# Altium footprint library LD09P24A4GV00LF.PcbLib: 1 footprints
Each footprint in its own frame and in the unit in brackets; x right, y up, seen from the top. Pads: shape width x height; smd on the part's side, far side on the other; paste and mask are expansions set on the pad; w line width, h text height; cw(c..) or ccw(c..) is an arc to the next point about the centre after c.
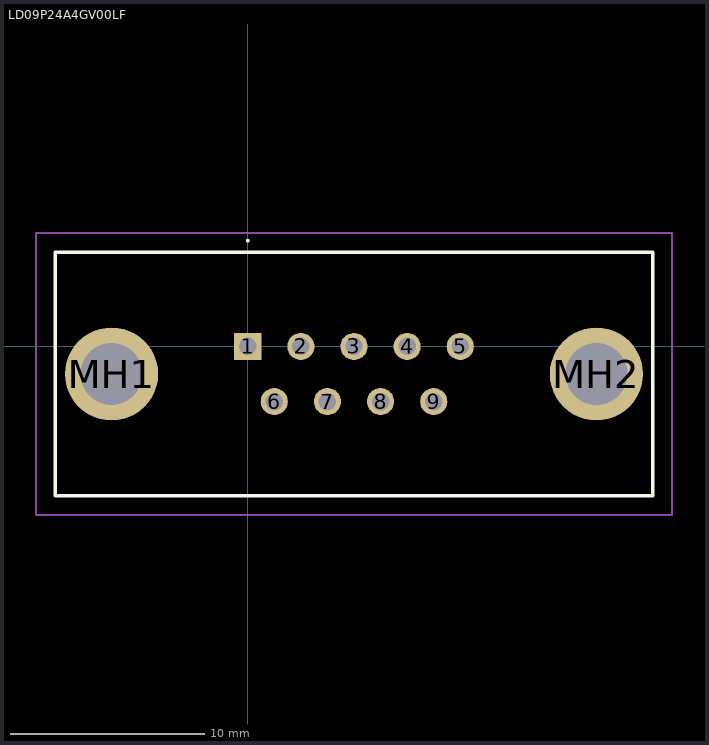
[diagram p0: the footprint, top view; thin cyan lines are the x and y axes]

## LD09P24A4GV00LF [mm]
pads (11):
  rect 1.4x1.4 hole 0.9: 1(0,0)
  round 1.4 hole 0.9: 2(2.74,0) 3(5.48,0) 4(8.22,0) 5(10.96,0) 6(1.37,-2.84) 7(4.11,-2.84) 8(6.85,-2.84) 9(9.59,-2.84)
  round 4.8 hole 3.2: MH1(-7.015,-1.42) MH2(17.975,-1.42)
Top Overlay:
  lines w0.1: 0,5.4 0,5.4 ; 0,5.4 ccw(c0,5.45) 0,5.5 ; 0,5.4 cw(c0,5.45) 0,5.5 ; 0,5.5 0,5.5
  lines w0.2: -9.925,-7.695 20.885,-7.695 20.885,4.855 -9.925,4.855 -9.925,-7.695
Mechanical 15:
  lines w0.1: -9.925,-7.695 20.885,-7.695 20.885,4.855 -9.925,4.855 -9.925,-7.695
Mechanical 20:
  lines w0.1: -10.925,-8.695 21.885,-8.695 21.885,5.855 -10.925,5.855 -10.925,-8.695
3D body "LD09P24A4GV00LF.stp": height 5.8, standoff -4.65, extent -10,-3.376 10,3.376